# Altium schematic symbol library I2C_Shield.SchLib: 13 symbols
Pins are listed as number, name and electrical type; pins without a type are passive.

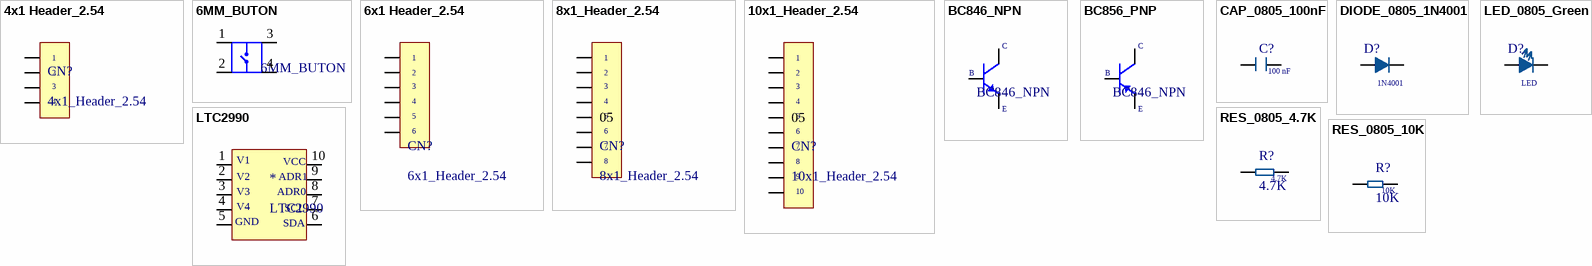
[diagram p0: symbols 4x1 Header_2.54 to RES_0805_10K]

## 4x1 Header_2.54
designator CN?, comment 4x1_Header_2.54
OLED Screen Header / 2.54 mm interval; Manıfacturer: https://robolinkmarket.com/arduino-stackable-header-10-pin-arduino-shield-konnektoru; Package Size: 4x1
pins: 01, 02, 03, 04
text: 1; 2; 3; 4

## 6MM_BUTON
designator S?
SWITCH TACT 6x6MM; Current: 50mA; Voltage Rate: 12V; Link: https://ozdisan.com/elektromekanik-komponentler/sivicler-ve-anahtarlar/tact-sivicler/DS1042-03-116-KKR-250-10/586990; Package Size: 6x6mm
footprint 6MMTACTILESWITCH
pins: 1, 2, 3, 4

## 6x1 Header_2.54
designator CN?, comment 6x1_Header_2.54
Arduino Boards Connector
pins: 0 7, 1 7, 2 7, 3 7, 4, 5 7
text: 6

## 8x1_Header_2.54
designator CN?
footprint 8X1_HEADER
pins: 01, 02, 03, 04, 05, 06, 07, 08
text: 1; 2; 3; 4; 5; 6; 7; 8

## 10x1_Header_2.54
designator CN?
Arduino Boards Connector
pins: 01, 02, 03, 04, 05, 06, 07, 08, 09, 10
text: 1; 2; 3; 4; 5; 6; 7; 8; 9

## BC846_NPN
designator Q
100mA 65V NPN SOT23 GEN. SMT; Current: 100mA; Package Size: SOT23; Manufacturer: https://ozdisan.com/guc-yari-iletkenleri/transistorler/discrete-transistorler/BC846B215?gad_source=1&gclid=Cj0KCQjwy46_BhDOARIsAIvmcwNCMGEaCEsQajMd8yJIZE69PXS3_QebE5-iCJs0z8hh3_9qRJZA0FQaAk8lEALw_wcB; Voltage Rating: 65V
pins: 0, 2, C 1
text: B; E

## BC856_PNP
designator Q, comment BC846_NPN
100mA 65V PNP SOT23 GEN. SMT; Current: 100mA; Package Size: SOT23; Manufacturer: https://www.ozdisan.com/guc-yari-iletkenleri/transistor/discrete-transistorler/BC856B215?srsltid=AfmBOopL10-9Q4Z96Mfx0JKtVZZ71IeaXjUUm1HcUukJmYMnFeFHXGMR; Voltage Rating: 65V
pins: 0, 2, C 1
text: B; E

## CAP_0805_100nF
designator C?, comment 100 nF  (value not drawn)
0805 100nF 16VDC ±5% X7R; Manufacturer: YAGEO; Voltage Rating: 16V; Package Size: 0805; Link: http://ozdisan.com/pasif-komponentler/kapasitorler/smt-smd-ve-mlcc-kapasitorler/CC0805JRX7R7BB104/748828; Dielectric Material: X7R; Tolerance: 5%
footprint CAPCER0805_EB (Chip Capacitor, 2-Leads, Body 2,00x1,25mm, IPC Medium Density)
pins: 0, 1

## DIODE_0805_1N4001
designator D?  (value not drawn)
Single 1A 50V THT DO41; Voltage Rate: 50V; Manufacturer: https://www.ozdisan.com/guc-yari-iletkenleri/diyot-modul-diyot-dogrultucular/genel-amacli-diyotlar/1N4001?srsltid=AfmBOooq1zfdM_QmFsrvFgrvX47HW9w8iniiAfllxSOu0XHjpxmtJlnc; Current: 1A; Package Size: D041
pins: 0, 1
text: 1N4001

## LED_0805_Green
designator D?, comment DIODE_0805_1N4001  (value not drawn)
SMD 0805 GREEN 360mcd 130° WATER CLEAR; Voltage Rate: 2.6V; Forward Current: 30 mA; Manufacturer: https://ozdisan.com/led-ve-aydinlatma-cozumleri/led-komponentler/sinyal-ledler-renkli/FYLS-0805PGC?srsltid=AfmBOoruaHgTFv8T6Ba4-STIdPSPfeFlZvrsNzZRMs8tCYsMHPmF58y8; Package Size: 0805
pins: 0, 1
text: LED

## LTC2990
designator *
Quad I2C Voltage, Current and Temperature Monitor; Voltage Rate: 2.9V ~ 5.5V; Accuracy: ±3.5°C Local(Max), ±1.5°C Remote(Max); Output: I2C; Operating Temp: 0°C ~ 70°C; Manufacturer: https://www.digikey.bg/en/products/detail/analog-devices-inc/LTC2990CMS-TRPBF/2407346
pins: 1, 2, 3, 4, 5, 6, 7, 8, 9, 10
text: V1; VCC; V2; ADR1; V3; ADR0; V4; SCL; GND; SDA

## RES_0805_4.7K
designator R?, comment 4.7K
0805 4.7K Ohms 5% 1/8W; Manufacturer: YAGEO; Link: https://ozdisan.com/pasif-komponentler/direncler/smt-smd-ve-cip-direncler/RC0805JR-074K7L/837266?srsltid=AfmBOoroQsLglOQURZTNfV6TOzORWgNz9RIRxF4O0yrMWICDUKmaQVvV; Package Size: 0805
footprint RES0805 (Chip Resistor, 2-Leads, Body 2,00x1,25mm, IPC Medium Density)
pins: 1, 2

## RES_0805_10K
designator R?, comment 10K
0805 10K Ohms 5% 1/8W; Manufacturer: https://ozdisan.com/pasif-komponentler/direncler/smt-smd-ve-cip-direncler/RC0805JR-0710KL?srsltid=AfmBOopN_-nETGU7-NCXzNanGO-aaq6SkDUBsiRhcskOMLzh3uyBCMmI; Package Size: *; Tolerance: *
footprint RES0805 (Chip Resistor, 2-Leads, Body 2,00x1,25mm, IPC Medium Density)
pins: 1, 2